# EAGLE library part RASPBERRY_PI_B+ (library Header and Connector)
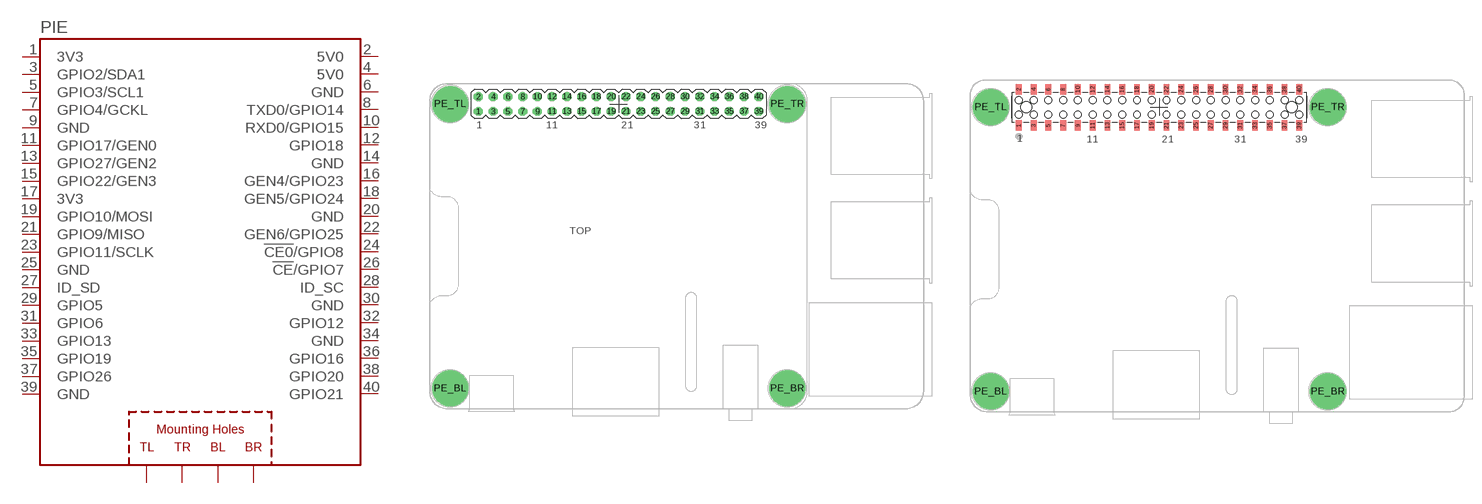
[diagram p29: symbol with the pads of RASPBERRY_PI_B+; footprints RASPBERRY_PI_B+, RASPBERRY_PI_B+_HOLE]

Designator prefix PIE

## RASPBERRY_PI_B+  [RASPBERRY_PI_B+]
1  3V3
2  5V0
3  GPIO2/SDA1
4  5V0
5  GPIO3/SCL1
6  GND
7  GPIO4/GCKL
8  TXD0/GPIO14
9  GND
10  RXD0/GPIO15
11  GPIO17/GEN0
12  GPIO18
13  GPIO27/GEN2
14  GND
15  GPIO22/GEN3
16  GEN4/GPIO23
17  3V3
18  GEN5/GPIO24
19  GPIO10/MOSI
20  GND
21  GPIO9/MISO
22  GEN6/GPIO25
23  GPIO11/SCLK
24  !CE0!/GPIO8
25  GND
26  !CE!/GPIO7
27  ID_SD
28  ID_SC
29  GPIO5
30  GND
31  GPIO6
32  GPIO12
33  GPIO13
34  GND
35  GPIO19
36  GPIO16
37  GPIO26
38  GPIO20
39  GND
40  GPIO21
PE_BL  BL
PE_BR  BR
PE_TL  TL
PE_TR  TR

## RASPBERRY_PI_B+_HOLE  [RASPBERRY_PI_B+_HOLE]
Pads as for RASPBERRY_PI_B+

## Footprint RASPBERRY_PI_B+ (pad centres in mm)
drill 1.016 octagon: 1 8.37,51.23; 2 8.37,53.77; 3 10.91,51.23; 4 10.91,53.77; 5 13.45,51.23; 6 13.45,53.77; 7 15.99,51.23; 8 15.99,53.77; 9 18.53,51.23; 10 18.53,53.77; 11 21.07,51.23; 12 21.07,53.77; 13 23.61,51.23; 14 23.61,53.77; 15 26.15,51.23; 16 26.15,53.77; 17 28.69,51.23; 18 28.69,53.77; 19 31.23,51.23; 20 31.23,53.77; 21 33.77,51.23; 22 33.77,53.77; 23 36.31,51.23; 24 36.31,53.77; 25 38.85,51.23; 26 38.85,53.77; 27 41.39,51.23; 28 41.39,53.77; 29 43.93,51.23; 30 43.93,53.77; 31 46.47,51.23; 32 46.47,53.77; 33 49.01,51.23; 34 49.01,53.77; 35 51.55,51.23; 36 51.55,53.77; 37 54.09,51.23; 38 54.09,53.77; 39 56.63,51.23; 40 56.63,53.77
drill 2.75 pad 6.2: PE_BL 3.5,3.5; PE_BR 61.5,3.5; PE_TL 3.5,52.5; PE_TR 61.5,52.5

## Footprint RASPBERRY_PI_B+_HOLE (pad centres in mm)
smd 1.016 x 1.778: 1 -32.262,22.67; 2 -32.262,28.893; 3 -29.722,22.67; 4 -29.722,28.893; 5 -27.182,22.67; 6 -27.182,28.893; 7 -24.642,22.67; 8 -24.642,28.893; 9 -22.102,22.67; 10 -22.102,28.893; 11 -19.562,22.67; 12 -19.562,28.893; 13 -17.022,22.67; 14 -17.022,28.893; 15 -14.482,22.67; 16 -14.482,28.893; 17 -11.942,22.67; 18 -11.942,28.893; 19 -9.402,22.67; 20 -9.402,28.893; 21 -6.862,22.67; 22 -6.862,28.893; 23 -4.322,22.67; 24 -4.322,28.893; 25 -1.782,22.67; 26 -1.782,28.893; 27 0.758,22.67; 28 0.758,28.893; 29 3.298,22.67; 30 3.298,28.893; 31 5.838,22.67; 32 5.838,28.893; 33 8.378,22.67; 34 8.378,28.893; 35 10.918,22.67; 36 10.918,28.893; 37 13.458,22.67; 38 13.458,28.893; 39 15.998,22.67; 40 15.998,28.893
drill 2.75 pad 6.2: PE_BL -37.14,-23.17; PE_BR 20.86,-23.17; PE_TL -37.14,25.83; PE_TR 20.86,25.83
hole 1.9 at -30.988,25.781
hole 1.9 at 14.732,25.781
hole 1.2 at -32.258,27.051
hole 1.2 at -32.258,24.511
hole 1.2 at -29.718,27.051
hole 1.2 at -29.718,24.511
hole 1.2 at -27.178,27.051
hole 1.2 at -27.178,24.511
hole 1.2 at -24.638,27.051
hole 1.2 at -24.638,24.511
hole 1.2 at -22.098,27.051
hole 1.2 at -22.098,24.511
hole 1.2 at -19.558,27.051
hole 1.2 at -19.558,24.511
hole 1.2 at -17.018,27.051
hole 1.2 at -17.018,24.511
hole 1.2 at -14.478,27.051
hole 1.2 at -14.478,24.511
hole 1.2 at -11.938,27.051
hole 1.2 at -11.938,24.511
hole 1.2 at -9.398,27.051
hole 1.2 at -9.398,24.511
hole 1.2 at -6.858,27.051
hole 1.2 at -6.858,24.511
hole 1.2 at -4.318,27.051
hole 1.2 at -4.318,24.511
hole 1.2 at -1.778,27.051
hole 1.2 at -1.778,24.511
hole 1.2 at 0.762,27.051
hole 1.2 at 0.762,24.511
hole 1.2 at 3.302,27.051
hole 1.2 at 3.302,24.511
hole 1.2 at 5.842,27.051
hole 1.2 at 5.842,24.511
hole 1.2 at 8.382,27.051
hole 1.2 at 8.382,24.511
hole 1.2 at 10.922,27.051
hole 1.2 at 10.922,24.511
hole 1.2 at 13.462,27.051
hole 1.2 at 16.002,27.051
hole 1.2 at 13.462,24.511
hole 1.2 at 16.002,24.511